# EAGLE library part HD44780-4BIT (library pinconn)
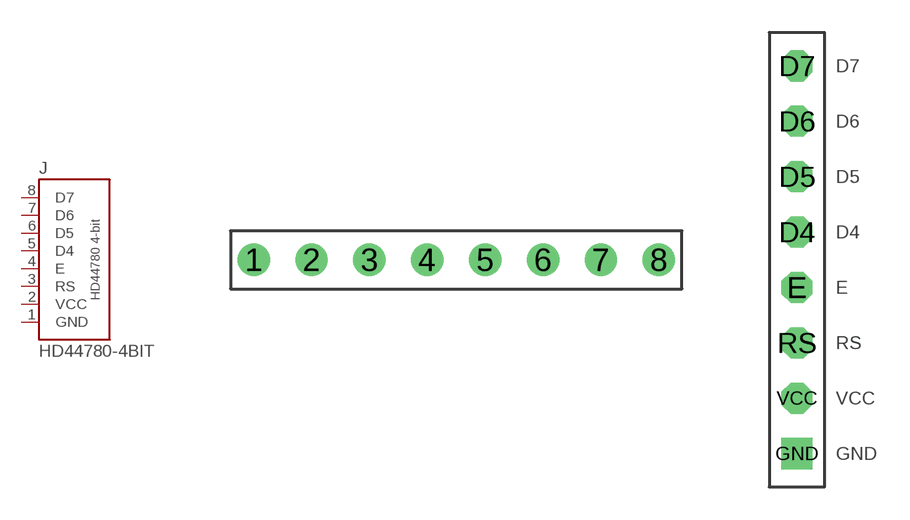
[diagram p7: symbol with the pads of CONN-8P; footprints CONN-8P, CONN-LCD44780]

Designator prefix J

## HD44780-4BIT-8PIN  [CONN-8P]
1  GND  pas
2  VCC  pas
3  RS  pas
4  E  pas
5  D4  pas
6  D5  pas
7  D6  pas
8  D7  pas

## HD44780-4BITLCD44780-8P  [CONN-LCD44780]
D4  D4  pas
D5  D5  pas
D6  D6  pas
D7  D7  pas
E  E  pas
GND  GND  pas
RS  RS  pas
VCC  VCC  pas

## HD44780-4BIT-2X8  [2X08]
1  E  pas
3  GND  pas
5  RS  pas
9  VCC  pas
10  D4  pas
11  GND  pas
12  D5  pas
14  D6  pas
16  D7  pas

## Footprint CONN-8P (pad centres in mm)
drill 0.9 pad 1.422: 1 0,0; 2 2.54,0; 3 5.08,0; 4 7.62,0; 5 10.16,0; 6 12.7,0; 7 15.24,0; 8 17.78,0

## Footprint CONN-LCD44780 (pad centres in mm)
drill 0.9 pad 1.422 octagon: D4 0,10.16; D5 0,12.7; D6 0,15.24; D7 0,17.78; E 0,7.62; RS 0,5.08; VCC 0,2.54
drill 0.9 pad 1.422 square: GND 0,0

## Footprint 2X08 (pad centres in mm)
PIN HEADER
drill 1.016 octagon: 1 -8.89,-1.27; 2 -8.89,1.27; 3 -6.35,-1.27; 4 -6.35,1.27; 5 -3.81,-1.27; 6 -3.81,1.27; 7 -1.27,-1.27; 8 -1.27,1.27; 9 1.27,-1.27; 10 1.27,1.27; 11 3.81,-1.27; 12 3.81,1.27; 13 6.35,-1.27; 14 6.35,1.27; 15 8.89,-1.27; 16 8.89,1.27